# Altium footprint library MF_MiscLib.PcbLib: 108 footprints (part 5 of 7)
Each footprint in its own frame and in the unit in brackets; x right, y up, seen from the top. Pads: shape width x height; smd on the part's side, far side on the other; paste and mask are expansions set on the pad; w line width, h text height; cw(c..) or ccw(c..) is an arc to the next point about the centre after c.
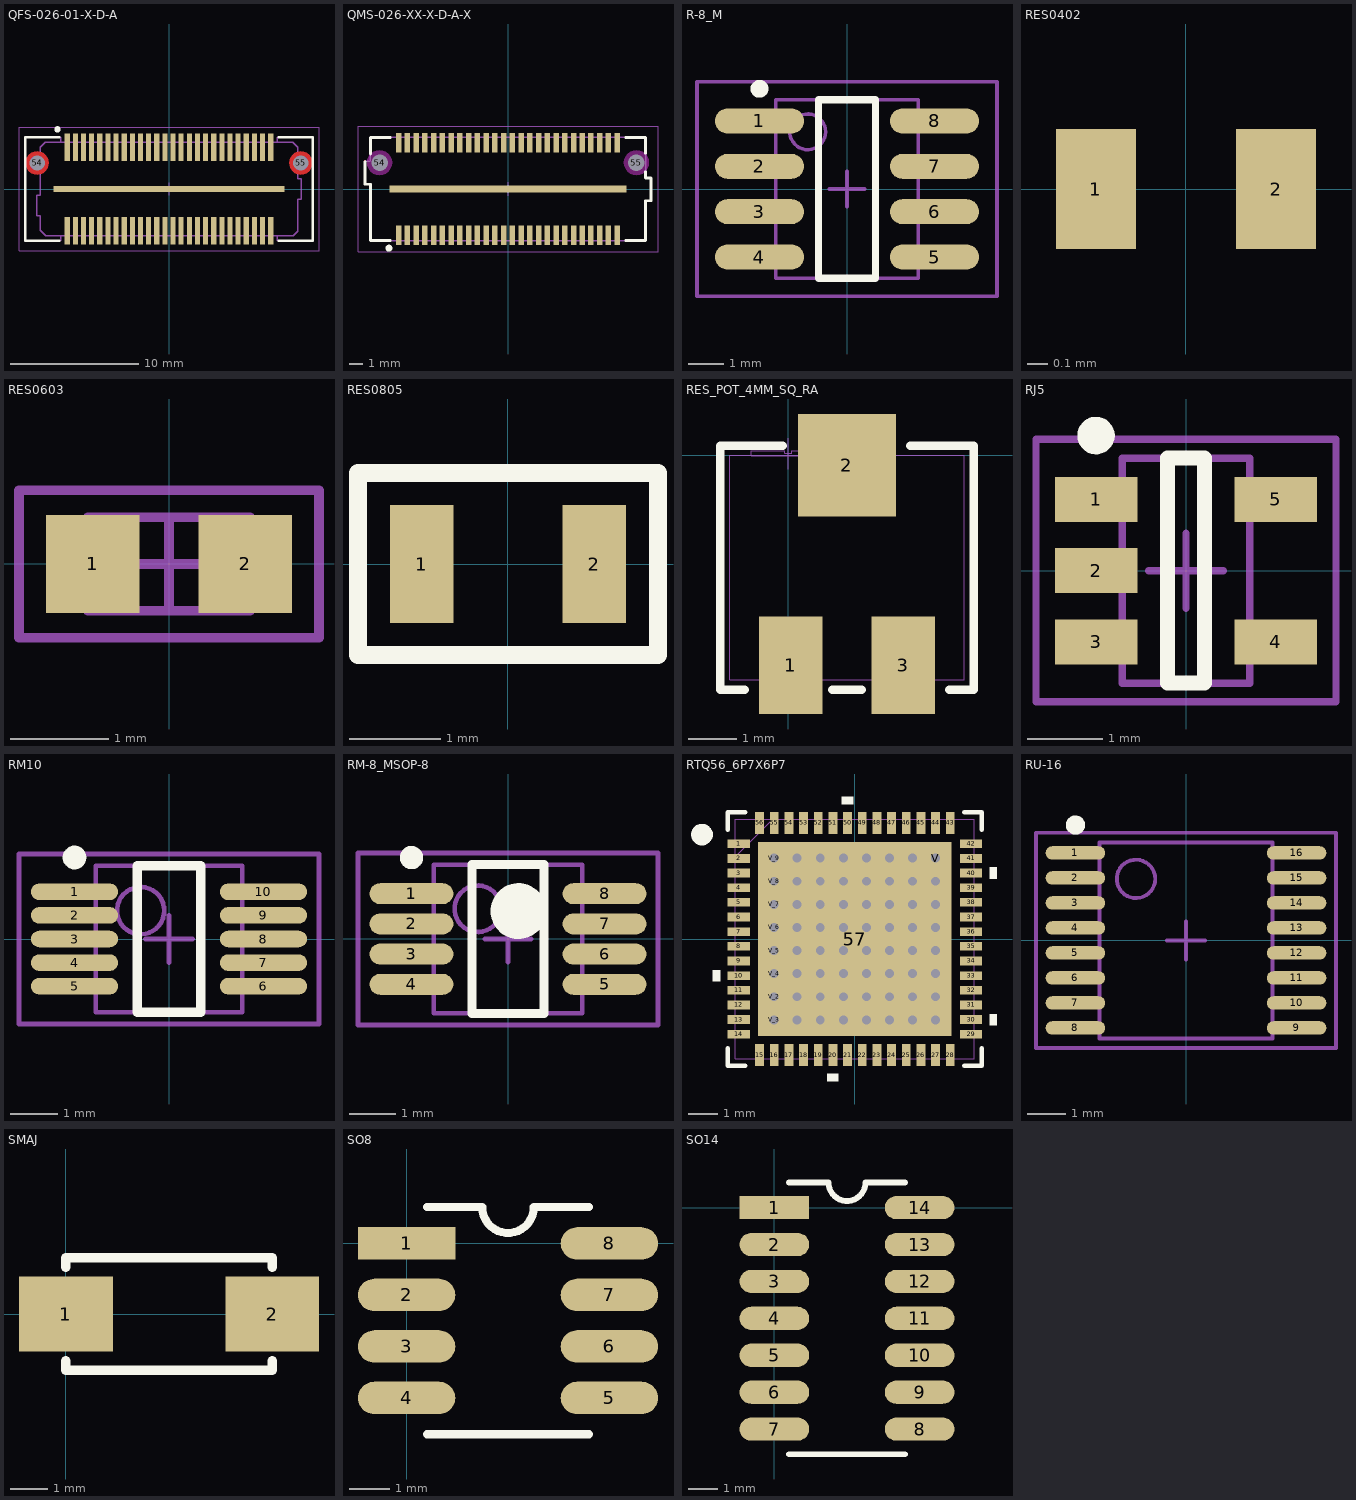
[diagram p4: the footprints below, top view; thin cyan lines are the x and y axes]

## QFS-026-01-X-D-A [mm] "0.635mm pitch, 52 pin, rugged high speed socket"
height 7.06
pads (55):
  rect 0.4x2.15 smd mask+0: 1(-7.94,3.24) 2(-7.94,-3.24) 3(-7.305,3.24) 4(-7.305,-3.24) 5(-6.67,3.24) 6(-6.67,-3.24) 7(-6.035,3.24) 8(-6.035,-3.24) 9(-5.4,3.24) 10(-5.4,-3.24) 11(-4.765,3.24) 12(-4.765,-3.24) 13(-4.13,3.24) 14(-4.13,-3.24) 15(-3.495,3.24) 16(-3.495,-3.24) 17(-2.86,3.24) 18(-2.86,-3.24) 19(-2.225,3.24) 20(-2.225,-3.24) 21(-1.59,3.24) 22(-1.59,-3.24) 23(-0.955,3.24) 24(-0.955,-3.24) 25(-0.32,3.24) 26(-0.32,-3.24) 27(0.315,3.24) 28(0.315,-3.24) 29(0.95,3.24) 30(0.95,-3.24) 31(1.585,3.24) 32(1.585,-3.24) 33(2.22,3.24) 34(2.22,-3.24) 35(2.855,3.24) 36(2.855,-3.24) 37(3.49,3.24) 38(3.49,-3.24) 39(4.125,3.24) 40(4.125,-3.24) 41(4.76,3.24) 42(4.76,-3.24) 43(5.395,3.24) 44(5.395,-3.24) 45(6.03,3.24) 46(6.03,-3.24) 47(6.665,3.24) 48(6.665,-3.24) 49(7.3,3.24) 50(7.3,-3.24) 51(7.935,3.24) 52(7.935,-3.24)
  rect 18x0.5 smd mask+0: 53(0,0)
  round 1 hole 1.2 unplated mask+0: 54(-10.28,2.03) 55(10.28,2.03)
Top Layer:
  pour cut-out: -9.372,2.03 -9.403,2.265 -9.494,2.484 -9.638,2.672 -9.826,2.816 -10.045,2.907 -10.28,2.938 -10.515,2.907 -10.734,2.816 -10.922,2.672 -11.066,2.484 -11.157,2.265 -11.188,2.03 -11.157,1.795 -11.066,1.576 -10.922,1.388 -10.734,1.244 -10.515,1.153 -10.28,1.122 -10.045,1.153 -9.826,1.244 -9.638,1.388 -9.494,1.576 -9.403,1.795
  pour cut-out: 11.188,2.03 11.157,2.265 11.066,2.484 10.922,2.672 10.734,2.816 10.515,2.907 10.28,2.938 10.045,2.907 9.826,2.816 9.638,2.672 9.494,2.484 9.403,2.265 9.372,2.03 9.403,1.795 9.494,1.576 9.638,1.388 9.826,1.244 10.045,1.153 10.28,1.122 10.515,1.153 10.734,1.244 10.922,1.388 11.066,1.576 11.157,1.795
Top Overlay:
  circle w0.25: c-8.7,4.65 r0.125
  lines w0.2: -8.55,-4.05 -11.2,-4.05 -11.2,4.05 -8.55,4.05 ; 8.55,-4.05 11.2,-4.05 11.2,4.05 8.55,4.05
Mechanical 12:
  lines w0.001: -11.2,-4.05 -8.45,-4.05 -8.45,-3.65 8.45,-3.65 8.45,-4.05 11.2,-4.05 11.2,4.05 8.45,4.05 8.45,3.65 -8.45,3.65 -8.45,4.05 -11.2,4.05 -11.2,-4.05
Mechanical 13:
  lines w0.1: -9.636,3.65 8.424,3.65 ; -8.45,-3.65 -8.45,-4.05 -11.2,-4.05 -11.2,4.05 -8.45,4.05 -8.45,3.65 ; 8.45,-3.65 8.45,-4.05 11.2,-4.05 11.2,4.05 8.45,4.05 8.45,3.65 ; -10.3,-2.1 -10.05,-2.1 -10.05,-3.2 -9.6,-3.65 9.7,-3.65 10.05,-3.3 10.05,-0.8 10.3,-0.8 10.3,0.8 10.05,0.8 10.05,3.25 9.65,3.65 -9.65,3.65 -10.05,3.25 -10.05,-0.5 -10.3,-0.5 -10.3,-2.1
Mechanical 15:
  lines w0.05: -0.5,0 0.5,0 ; 0,-0.5 0,0.5 ; -11.7,-4.8 11.7,-4.8 11.7,4.8 -11.7,4.8 -11.7,-4.8
3D body: height 9.41, standoff -0.9, extent -11.176,-4.077 11.176,4.077

## QMS-026-XX-X-D-A-X [mm] "0.635mm pitch, 52 pin, rugged high speed terminal"
height 5.38
pads (55):
  rect 0.4x1.4 smd mask+0: 1(-7.94,-3.365) 2(-7.94,3.365) 3(-7.305,-3.365) 4(-7.305,3.365) 5(-6.67,-3.365) 6(-6.67,3.365) 7(-6.035,-3.365) 8(-6.035,3.365) 9(-5.4,-3.365) 10(-5.4,3.365) 11(-4.765,-3.365) 12(-4.765,3.365) 13(-4.13,-3.365) 14(-4.13,3.365) 15(-3.495,-3.365) 16(-3.495,3.365) 17(-2.86,-3.365) 18(-2.86,3.365) 19(-2.225,-3.365) 20(-2.225,3.365) 21(-1.59,-3.365) 22(-1.59,3.365) 23(-0.955,-3.365) 24(-0.955,3.365) 25(-0.32,-3.365) 26(-0.32,3.365) 27(0.315,-3.365) 28(0.315,3.365) 29(0.95,-3.365) 30(0.95,3.365) 31(1.585,-3.365) 32(1.585,3.365) 33(2.22,-3.365) 34(2.22,3.365) 35(2.855,-3.365) 36(2.855,3.365) 37(3.49,-3.365) 38(3.49,3.365) 39(4.125,-3.365) 40(4.125,3.365) 41(4.76,-3.365) 42(4.76,3.365) 43(5.395,-3.365) 44(5.395,3.365) 45(6.03,-3.365) 46(6.03,3.365) 47(6.665,-3.365) 48(6.665,3.365) 49(7.3,-3.365) 50(7.3,3.365) 51(7.935,-3.365) 52(7.935,3.365)
  rect 17.25x0.5 smd mask+0: 53(0,0)
  round 1 hole 1.2 unplated mask+0: 54(-9.335,1.91) 55(9.335,1.91)
Top Overlay:
  circle w0.25: c-8.65,-4.3 r0.125
  lines w0.2: -10.4,2 -10.4,0.35 -10,0.35 -10,-3.75 -8.55,-3.75 ; -10,2.55 -10,3.75 -8.55,3.75 ; 8.55,-3.75 10,-3.75 10,-0.85 10.4,-0.85 10.4,0.8 10,0.8 10,1.25 ; 8.55,3.75 10,3.75 10,2.6
Keep-Out Layer:
  pour cut-out: -8.427,1.91 -8.458,2.145 -8.549,2.364 -8.693,2.552 -8.881,2.696 -9.1,2.787 -9.335,2.818 -9.57,2.787 -9.789,2.696 -9.977,2.552 -10.121,2.364 -10.212,2.145 -10.243,1.91 -10.212,1.675 -10.121,1.456 -9.977,1.268 -9.789,1.124 -9.57,1.033 -9.335,1.002 -9.1,1.033 -8.881,1.124 -8.693,1.268 -8.549,1.456 -8.458,1.675
  pour cut-out: 10.243,1.91 10.212,2.145 10.121,2.364 9.977,2.552 9.789,2.696 9.57,2.787 9.335,2.818 9.1,2.787 8.881,2.696 8.693,2.552 8.549,2.364 8.458,2.145 8.427,1.91 8.458,1.675 8.549,1.456 8.693,1.268 8.881,1.124 9.1,1.033 9.335,1.002 9.57,1.033 9.789,1.124 9.977,1.268 10.121,1.456 10.212,1.675
Mechanical 12:
  lines w0.001: -10.4,0.35 -10.4,2 -10,2 -10,3.75 10,3.75 10,0.8 10.4,0.8 10.4,-0.85 10,-0.85 10,-3.75 -10,-3.75 -10,0.35 -10.4,0.35
Mechanical 13:
  lines w0.1: -10.4,0.35 -10,0.35 -10,-3.75 10,-3.75 10,-0.85 10.4,-0.85 10.4,0.8 10,0.8 10,3.75 -10,3.75 -10,2 -10.4,2 -10.4,0.35
Mechanical 15:
  lines w0.05: -0.5,0 0.5,0 ; 0,-0.5 0,0.5 ; -10.9,-4.55 10.9,-4.55 10.9,4.55 -10.9,4.55 -10.9,-4.55
3D body: height 9.69, standoff -0.93, extent -10.604,-3.759 10.605,3.759

## R0603 [mm]

## R-8_M [mm] "8-Pin Narrow Body Small Outline Integrated Circuit 1.27 mm Pitch, IPC Low Density"
height 1.75
pads (8):
  oval 2.5x0.7 smd: 1(-2.45,1.905) 2(-2.45,0.635) 3(-2.45,-0.635) 4(-2.45,-1.905) 5(2.45,-1.905) 6(2.45,-0.635) 7(2.45,0.635) 8(2.45,1.905)
Top Overlay:
  circle w0.25: c-2.45,2.805 r0.125
  lines w0.2: -0.8,-2.5 -0.8,2.5 0.8,2.5 0.8,-2.5 -0.8,-2.5
Mechanical 13:
  circle w0.1: c-1.1,1.6 r0.5
  lines w0.1: -2,-2.5 -2,2.5 2,2.5 2,-2.5 -2,-2.5
Mechanical 15:
  lines w0.1: -0.5,0 0.5,0 ; 0,-0.5 0,0.5 ; -4.2,-3 -4.2,3 4.2,3 4.2,-3 -4.2,-3
3D body: height 1.75, standoff 0, extent -2,-2.5 2,2.5

## RES0402 [mm]
pads (2):
  rect 0.4x0.6 smd: 1(-0.45,0) 2(0.45,0)

## RES0603 [mm] "Chip Resistor, 2-Leads, Body 1.6x0.8mm, IPC Medium Density"
height 0.5
pads (2):
  rect 0.95x1 smd: 1(-0.775,0) 2(0.775,0)
Mechanical 13:
  lines w0.1: -0.825,-0.475 -0.825,0.475 0.825,0.475 0.825,-0.475 -0.825,-0.475
Mechanical 15:
  lines w0.1: -0.475,0 0.475,0 ; 0,-0.475 0,0.475 ; -1.525,-0.75 -1.525,0.75 1.525,0.75 1.525,-0.75 -1.525,-0.75
3D body: height 0.5, standoff 0, extent -0.825,-0.475 0.825,0.475

## RES0805 [mm]
pads (2):
  rect 0.7x1.3 smd: 1(-0.95,0) 2(0.95,0)
Top Overlay:
  lines w0.2: -1.65,-1 1.65,-1 1.65,1 -1.65,1 -1.65,0 -1.65,-1

## RES_POT_4MM_SQ_RA [mm]
pads (3):
  rect 1.3x2 smd: 1(0.05,-4.3) 3(2.35,-4.3)
  rect 2x2.1 smd: 2(1.2,-0.2)
Top Overlay:
  lines w0.178: -0.9,-4.8 -1.4,-4.8 -1.4,0.2 -0.122,0.2 ; 0.9,-4.8 1.5,-4.8 ; 2.5,0.2 3.8,0.2 3.8,-4.8 3.3,-4.8
Mechanical 15:
  lines w0.025: 0,-0.283 0,0.352 ; -1.2,-4.6 -1.2,0 3.6,0 3.6,-4.6 -1.2,-4.6 ; -0.766,-0.002 -0.766,0.1 -0.08,0.1 -0.08,0.049 0.072,0.049 0.072,0.1 0.758,0.1 0.758,-0.002 -0.766,-0.002

## RJ5 [mm] "SOT23, 5-Leads, Body 3.0x3.0mm (max), Pitch 0.95mm, IPC Medium Density"
height 1.45
pads (5):
  rect 1.1x0.6 smd: 1(-1.2,0.95) 2(-1.2,0) 3(-1.2,-0.95) 4(1.2,-0.95) 5(1.2,0.95)
Top Overlay:
  circle w0.25: c-1.2,1.8 r0.125
  lines w0.2: -0.25,-1.5 -0.25,1.5 0.25,1.5 0.25,-1.5 -0.25,-1.5
Mechanical 13:
  lines w0.1: -0.85,-1.5 0.85,-1.5 0.85,1.5 -0.85,1.5 -0.85,-1.5
Mechanical 15:
  lines w0.1: -0.5,0 0.5,0 ; 0,-0.5 0,0.5 ; -2,-1.75 2,-1.75 2,1.75 -2,1.75 -2,-1.75
3D body: height 1.45, standoff 0.15, extent -0.85,-1.5 0.85,1.5

## RM10 [mm] "TSSOP, 10-Leads, Body 3.1x3.1mm (max), Pitch 0.50mm, IPC Medium Density"
height 1.1
pads (10):
  oval 1.85x0.35 smd: 1(-2,1) 2(-2,0.5) 3(-2,0) 4(-2,-0.5) 5(-2,-1) 6(2,-1) 7(2,-0.5) 8(2,0) 9(2,0.5) 10(2,1)
Top Overlay:
  circle w0.25: c-2,1.725 r0.125
  lines w0.2: -0.675,-1.55 0.675,-1.55 0.675,1.55 -0.675,1.55 -0.675,-1.55
Mechanical 13:
  circle w0.1: c-0.6,0.6 r0.5
  lines w0.1: -1.55,-1.55 1.55,-1.55 1.55,1.55 -1.55,1.55 -1.55,-1.55
Mechanical 15:
  lines w0.1: -0.5,0 0.5,0 ; 0,-0.5 0,0.5 ; -3.175,-1.8 3.175,-1.8 3.175,1.8 -3.175,1.8 -3.175,-1.8
3D body: height 1.1, standoff 0.05, extent -1.55,-1.55 1.55,1.55

## RM-8_MSOP-8 [mm]
height 0.95
pads (8):
  oval 1.8x0.45 smd: 1(-2.075,0.975) 2(-2.075,0.325) 3(-2.075,-0.325) 4(-2.075,-0.975) 5(2.075,-0.975) 6(2.075,-0.325) 7(2.075,0.325) 8(2.075,0.975)
Top Overlay:
  circle w0.6: c0.225,0.6 r0.3
  circle w0.25: c-2.075,1.75 r0.125
  lines w0.2: -0.775,-1.6 0.775,-1.6 0.775,1.6 -0.775,1.6 -0.775,-1.6
Mechanical 13:
  circle w0.1: c-0.65,0.65 r0.5
  lines w0.1: -1.6,-1.6 1.6,-1.6 1.6,1.6 -1.6,1.6 -1.6,-1.6
Mechanical 15:
  lines w0.1: -0.5,0 0.5,0 ; 0,-0.5 0,0.5 ; -3.225,-1.85 3.225,-1.85 3.225,1.85 -3.225,1.85 -3.225,-1.85
3D body: height 0.95, standoff 0.15, extent -1.6,-1.6 1.6,1.6

## RTQ56_6P7X6P7 [mil]
pads (121):
  rect 29.68x11.81 smd paste-5.91: 1(-155.94,127.95) 2(-155.94,108.27) 3(-155.94,88.58) 4(-155.94,68.9) 5(-155.94,49.21) 6(-155.94,29.53) 7(-155.94,9.84) 8(-155.94,-9.84) 9(-155.94,-29.53) 10(-155.94,-49.21) 11(-155.94,-68.9) 12(-155.94,-88.58) 13(-155.94,-108.27) 14(-155.94,-127.95) 29(155.94,-127.95) 30(155.94,-108.27) 31(155.94,-88.58) 32(155.94,-68.9) 33(155.94,-49.21) 34(155.94,-29.53) 35(155.94,-9.84) 36(155.94,9.84) 37(155.94,29.53) 38(155.94,49.21) 39(155.94,68.9) 40(155.94,88.58) 41(155.94,108.27) 42(155.94,127.95)
  rect 11.81x29.68 smd paste-5.91: 15(-127.98,-155.94) 16(-108.3,-155.94) 17(-88.61,-155.94) 18(-68.92,-155.94) 19(-49.23,-155.94) 20(-29.54,-155.94) 21(-9.85,-155.94) 22(9.85,-155.94) 23(29.54,-155.94) 24(49.23,-155.94) 25(68.92,-155.94) 26(88.61,-155.94) 27(108.3,-155.94) 28(127.98,-155.94) 43(127.98,155.94) 44(108.3,155.94) 45(88.61,155.94) 46(68.92,155.94) 47(49.23,155.94) 48(29.54,155.94) 49(9.85,155.94) 50(-9.85,155.94) 51(-29.54,155.94) 52(-49.23,155.94) 53(-68.92,155.94) 54(-88.61,155.94) 55(-108.3,155.94) 56(-127.98,155.94)
  rect 259.84x259.84 smd paste-129.42 mask-129.5: 57(0,0)
  round 20 / inner round 60 / far side round 20 hole 12: V(108.5,108.5) V_2(-108.5,-77.5) V_3(-108.5,-108.5) V_4(-108.5,-46.5) V_5(-108.5,-15.5) V_6(-108.5,15.5) V_7(-108.5,46.5) V_8(-108.5,77.5) V_9(-108.5,108.5) V_10(-77.5,-108.5) V_11(-77.5,-77.5) V_12(-77.5,-46.5) V_13(-77.5,-15.5) V_14(-77.5,15.5) V_15(-77.5,46.5) V_16(-77.5,77.5) V_17(-77.5,108.5) V_18(-46.5,-108.5) V_19(-46.5,-77.5) V_20(-46.5,-46.5) V_21(-46.5,-15.5) V_22(-46.5,15.5) V_23(-46.5,46.5) V_24(-46.5,77.5) V_25(-46.5,108.5) V_26(-15.5,-108.5) V_27(-15.5,-77.5) V_28(-15.5,-46.5) V_29(-15.5,-15.5) V_30(-15.5,15.5) V_31(-15.5,46.5) V_32(-15.5,77.5) V_33(-15.5,108.5) V_34(15.5,-108.5) V_35(15.5,-77.5) V_36(15.5,-46.5) V_37(15.5,-15.5) V_38(15.5,15.5) V_39(15.5,46.5) V_40(15.5,77.5) V_41(15.5,108.5) V_42(46.5,-108.5) V_43(46.5,-77.5) V_44(46.5,-46.5) V_45(46.5,-15.5) V_46(46.5,15.5) V_47(46.5,46.5) V_48(46.5,77.5) V_49(46.5,108.5) V_50(77.5,-108.5) V_51(77.5,-77.5) V_52(77.5,-46.5) V_53(77.5,-15.5) V_54(77.5,15.5) V_55(77.5,46.5) V_56(77.5,77.5) V_57(77.5,108.5) V_58(108.5,-108.5) V_59(108.5,-77.5) V_60(108.5,-46.5) V_61(108.5,-15.5) V_62(108.5,15.5) V_63(108.5,46.5) V_64(108.5,77.5)
Top Overlay:
  circle w15.75: c-205.28,140.16 r6.69
  region: -2.35,180.78 -17.34,180.78 -17.34,190.78 -2.35,190.78
  region: 180.78,96.08 190.78,96.08 190.78,81.08 180.78,81.08
  region: 180.78,-100.77 190.78,-100.77 190.78,-115.77 180.78,-115.77
  region: -22.04,-180.78 -37.03,-180.78 -37.03,-190.78 -22.04,-190.78
  region: -180.78,-41.71 -190.78,-41.71 -190.78,-56.71 -180.78,-56.71
  lines w6: -170.43,-146.96 -170.43,-170.43 -146.99,-170.43 ; -170.43,146.96 -170.43,170.43 -146.99,170.43 ; 146.99,-170.43 170.43,-170.43 170.43,-146.96 ; 146.99,170.43 170.43,170.43 170.43,146.96
Top Paste:
  drawing of 137 lines, arcs and shapes, not listed
Top Solder:
  drawing of 74 lines, arcs and shapes, not listed
Mechanical 1:
  lines w0: -160.43,110.43 -110.43,160.43 ; -160.43,-160.43 -160.43,160.43 160.43,160.43 160.43,-160.43 -160.43,-160.43 ; -160.43,-133.86 -160.43,-122.05 -160.43,-133.86 ; -160.43,-114.17 -160.43,-102.36 -160.43,-114.17 ; -160.43,-94.49 -160.43,-82.68 -160.43,-94.49 ; -160.43,-74.8 -160.43,-62.99 -160.43,-74.8 ; -160.43,-55.12 -160.43,-43.31 -160.43,-55.12 ; -160.43,-35.43 -160.43,-23.62 -160.43,-35.43 ; -160.43,-15.75 -160.43,-3.94 -160.43,-15.75 ; -160.43,3.94 -160.43,15.75 -160.43,3.94 ; -160.43,23.62 -160.43,35.43 -160.43,23.62 ; -160.43,43.31 -160.43,55.12 -160.43,43.31 ; -160.43,62.99 -160.43,74.8 -160.43,62.99 ; -160.43,82.68 -160.43,94.49 -160.43,82.68 ; -160.43,102.36 -160.43,114.17 -160.43,102.36 ; -160.43,122.05 -160.43,133.86 -160.43,122.05 ; -133.86,-160.43 -122.05,-160.43 -133.86,-160.43 ; -133.86,160.43 -122.05,160.43 -133.86,160.43 ; -114.17,-160.43 -102.36,-160.43 -114.17,-160.43 ; -114.17,160.43 -102.36,160.43 -114.17,160.43 ; -94.49,-160.43 -82.68,-160.43 -94.49,-160.43 ; -94.49,160.43 -82.68,160.43 -94.49,160.43 ; -74.8,-160.43 -62.99,-160.43 -74.8,-160.43 ; -74.8,160.43 -62.99,160.43 -74.8,160.43 ; -55.12,-160.43 -43.31,-160.43 -55.12,-160.43 ; -55.12,160.43 -43.31,160.43 -55.12,160.43 ; -35.43,-160.43 -23.62,-160.43 -35.43,-160.43 ; -35.43,160.43 -23.62,160.43 -35.43,160.43 ; -15.75,-160.43 -3.94,-160.43 -15.75,-160.43 ; -15.75,160.43 -3.94,160.43 -15.75,160.43 ; 3.94,-160.43 15.75,-160.43 3.94,-160.43 ; 3.94,160.43 15.75,160.43 3.94,160.43 ; 23.62,-160.43 35.43,-160.43 23.62,-160.43 ; 23.62,160.43 35.43,160.43 23.62,160.43 ; 43.31,-160.43 55.12,-160.43 43.31,-160.43 ; 43.31,160.43 55.12,160.43 43.31,160.43 ; 62.99,-160.43 74.8,-160.43 62.99,-160.43 ; 62.99,160.43 74.8,160.43 62.99,160.43 ; 82.68,-160.43 94.49,-160.43 82.68,-160.43 ; 82.68,160.43 94.49,160.43 82.68,160.43 ; 102.36,-160.43 114.17,-160.43 102.36,-160.43 ; 102.36,160.43 114.17,160.43 102.36,160.43 ; 122.05,-160.43 133.86,-160.43 122.05,-160.43 ; 122.05,160.43 133.86,160.43 122.05,160.43 ; 160.43,-133.86 160.43,-122.05 160.43,-133.86 ; 160.43,-114.17 160.43,-102.36 160.43,-114.17 ; 160.43,-94.49 160.43,-82.68 160.43,-94.49 ; 160.43,-74.8 160.43,-62.99 160.43,-74.8 ; 160.43,-55.12 160.43,-43.31 160.43,-55.12 ; 160.43,-35.43 160.43,-23.62 160.43,-35.43 ; 160.43,-15.75 160.43,-3.94 160.43,-15.75 ; 160.43,3.94 160.43,15.75 160.43,3.94 ; 160.43,23.62 160.43,35.43 160.43,23.62 ; 160.43,43.31 160.43,55.12 160.43,43.31 ; 160.43,62.99 160.43,74.8 160.43,62.99 ; 160.43,82.68 160.43,94.49 160.43,82.68 ; 160.43,102.36 160.43,114.17 160.43,102.36 ; 160.43,122.05 160.43,133.86 160.43,122.05

## RU-16 [mm] "TSOP, 16-Leads, Body 5.1x4.5mm (max), Pitch 0.65mm, IPC Medium Density"
height 1.2
pads (16):
  oval 1.55x0.35 smd: 1(-2.875,2.275) 2(-2.875,1.625) 3(-2.875,0.975) 4(-2.875,0.325) 5(-2.875,-0.325) 6(-2.875,-0.975) 7(-2.875,-1.625) 8(-2.875,-2.275) 9(2.875,-2.275) 10(2.875,-1.625) 11(2.875,-0.975) 12(2.875,-0.325) 13(2.875,0.325) 14(2.875,0.975) 15(2.875,1.625) 16(2.875,2.275)
Top Overlay:
  circle w0.25: c-2.875,3 r0.125
Mechanical 13:
  circle w0.1: c-1.3,1.6 r0.5
  lines w0.1: -2.25,-2.55 -2.25,2.55 2.25,2.55 2.25,-2.55 -2.25,-2.55
Mechanical 15:
  lines w0.1: -0.5,0 0.5,0 ; 0,-0.5 0,0.5 ; -3.9,-2.8 -3.9,2.8 3.9,2.8 3.9,-2.8 -3.9,-2.8
3D body: height 1.2, standoff 0.15, extent -2.25,-2.55 2.25,2.55

## SMAJ [mil]
pads (2):
  rect 100x80 smd: 1(0,0) 2(220,0)
Top Overlay:
  lines w10: 0,-50 0,-60 220,-60 220,-50 ; 0,50 0,60 220,60 220,50

## SO8 [mm]
pads (8):
  rect 2.4x0.8 smd: 1(0,0)
  oval 2.4x0.8 smd: 2(0,-1.27) 3(0,-2.54) 4(0,-3.81) 5(5,-3.81) 6(5,-2.54) 7(5,-1.27) 8(5,0)
Top Overlay:
  lines w0.2: 0.5,-4.705 4.5,-4.705 ; 0.5,0.895 1.865,0.895 ccw(c2.5,0.895) 3.135,0.895 4.5,0.895

## SO14 [mm]
pads (14):
  rect 2.4x0.8 smd: 1(0,0)
  oval 2.4x0.8 smd: 2(0,-1.27) 3(0,-2.54) 4(0,-3.81) 5(0,-5.08) 6(0,-6.35) 7(0,-7.62) 8(5,-7.62) 9(5,-6.35) 10(5,-5.08) 11(5,-3.81) 12(5,-2.54) 13(5,-1.27) 14(5,0)
Top Overlay:
  lines w0.2: 0.5,-8.485 4.5,-8.485 ; 0.5,0.865 1.865,0.865 ccw(c2.5,0.865) 3.135,0.865 4.5,0.865